# EAGLE library part AK130/07 (library PTR_AK130)
ANSCHLUSSKLEMME AK130 (7POLIG)
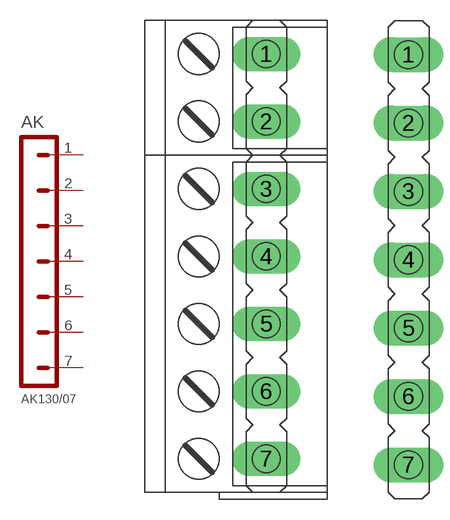
[diagram p1: symbol with the pads of AK07; footprints AK07, STL07]

Designator prefix AK

## AK130/07  [AK07]
1  P$1
2  P$2
3  P$3
4  P$4
5  P$5
6  P$6
7  P$7

## AK130/07_STL  [STL07]
Pads as for AK07

## Footprint AK07 (pad centres in mm)
AK130 (7POLIG) 1x AK130/2-5.0-GRAU 1x AK130/5-5.0-GRAU STL130/24-5.0-V-SCHWARZ
drill 1.5 pad 2.54 long: 1 0,15; 2 0,10; 3 0,5; 4 0,0; 5 0,-5; 6 0,-10; 7 0,-15

## Footprint STL07 (pad centres in mm)
STL130 (7POLIG) STL130/24-5.0-V-SCHWARZ
drill 1.5 pad 2.54 long: 1 0,15; 2 0,10; 3 0,5; 4 0,0; 5 0,-5; 6 0,-10; 7 0,-15